# Altium schematic symbol library sensor_temp&humidity.SchLib: 64 symbols
Pins are listed as number, name and electrical type; pins without a type are passive.

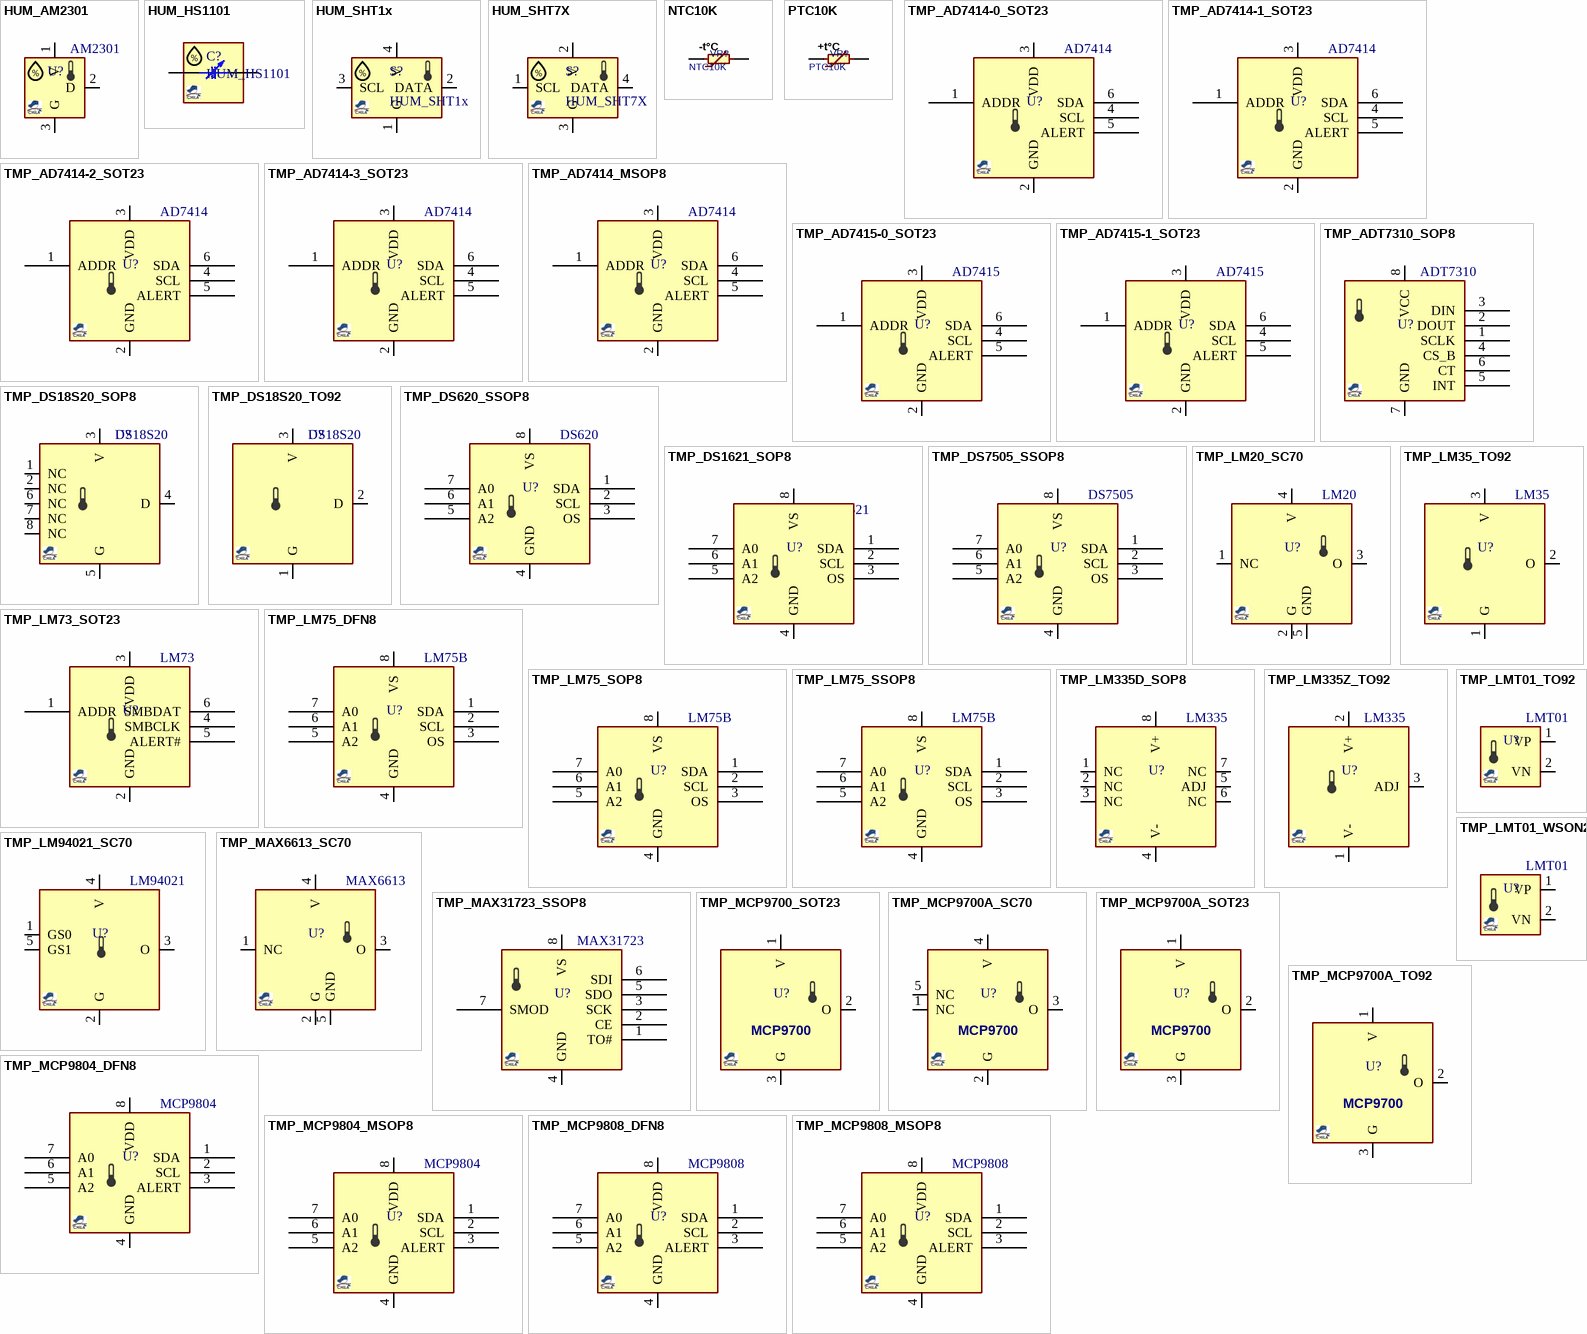
[diagram p0: symbols HUM_AM2301 to TMP_MCP9808_MSOP8]

## HUM_AM2301
designator U?, comment AM2301
Sensor, Humidity+Temp, Digital, Capacitive; PARAM2: PARAM2; VALUE: AM2301
footprint WF_4 (Footprint not found)
pins: 1 V, 2 D, 3 G

## HUM_HS1101
designator C?
SENSOR, HUMIDITY, RELATIVE; PARAM2: PARAM2
footprint HS1101 (HUMIDITY SENSOR)
pins: 1, 2

## HUM_SHT1x
designator S?
Sensor, Humidity+Temp, digital I2C interface; PARAM2: PARAM2
footprint SHT1X
pins: 1 G, 2 DATA, 3 SCL, 4 V

## HUM_SHT7X
designator S?
Sensor, Humidity+Temp, digital I2C interface; PARAM2: PARAM2
footprint SHT7X
pins: 1 SCL, 2 V, 3 G, 4 DATA

## NTC10K
designator VR?
Thermistor, NTC; PARAM: 10K; MANF: -; PARAM2: -; MANF_P#: NTC; PRICE: -; VALUE: NTC10K
footprint NTC_15X6 (NTC, pitch 5mm, 15X6mm, B57153)
pins: 1, 2
text: -t°C

## PTC10K
designator VR?
Thermistor, NTC; MANF_P#: PTC; PARAM: 10K; MANF: -; PARAM2: -; PRICE: -; VALUE: PTC10K
footprint NTC_15X6 (NTC, pitch 5mm, 15X6mm, B57153)
pins: 1, 2
text: +t°C

## TMP_AD7414-0_SOT23
designator U?, comment AD7414
SENSOR, TEMP, DIGITAL, I2C, 10BIT, -40~125oC, ±0.5°C; MANF_P#: AD7414ARTZ-0; MANF: Analog Devices; PARAM2: VCC2.7~5.5VCC; PARAM: 10BIT, -40~125°C, ±0.5°C; PRICE: 3$; VALUE: AD7414
footprint SOT23_6 (SOT-23-6, DDC, MICRO6, SOT-26, SOT457, SuperSOT6, TSOP-6, HMC313, MO-178AB, MO-193AA, TSOT)
pins: 1 ADDR, 2 GND, 3 VDD, 4 SCL, 5 ALERT, 6 SDA

## TMP_AD7414-1_SOT23
designator U?, comment AD7414
SENSOR, TEMP, DIGITAL, I2C, 10BIT, -40~125oC, ±0.5°C; MANF_P#: AD7414ARTZ-1; MANF: Analog Devices; PARAM2: VCC2.7~5.5VCC; PARAM: 10BIT, -40~125°C, ±0.5°C; PRICE: 3$; VALUE: AD7414
footprint SOT23_6 (SOT-23-6, DDC, MICRO6, SOT-26, SOT457, SuperSOT6, TSOP-6, HMC313, MO-178AB, MO-193AA, TSOT)
pins: 1 ADDR, 2 GND, 3 VDD, 4 SCL, 5 ALERT, 6 SDA

## TMP_AD7414-2_SOT23
designator U?, comment AD7414
SENSOR, TEMP, DIGITAL, I2C, 10BIT, -40~125oC, ±0.5°C; MANF_P#: AD7414ARTZ-2; MANF: Analog Devices; PARAM2: VCC2.7~5.5VCC; PARAM: 10BIT, -40~125°C, ±0.5°C; PRICE: 3$; VALUE: AD7414
footprint SOT23_6 (SOT-23-6, DDC, MICRO6, SOT-26, SOT457, SuperSOT6, TSOP-6, HMC313, MO-178AB, MO-193AA, TSOT)
pins: 1 ADDR, 2 GND, 3 VDD, 4 SCL, 5 ALERT, 6 SDA

## TMP_AD7414-3_SOT23
designator U?, comment AD7414
SENSOR, TEMP, DIGITAL, I2C, 10BIT, -40~125oC, ±0.5°C; MANF_P#: AD7414ARTZ-3; MANF: Analog Devices; PARAM2: VCC2.7~5.5VCC; PARAM: 10BIT, -40~125°C, ±0.5°C; PRICE: 3$; VALUE: AD7414
footprint SOT23_6 (SOT-23-6, DDC, MICRO6, SOT-26, SOT457, SuperSOT6, TSOP-6, HMC313, MO-178AB, MO-193AA, TSOT)
pins: 1 ADDR, 2 GND, 3 VDD, 4 SCL, 5 ALERT, 6 SDA

## TMP_AD7414_MSOP8
designator U?, comment AD7414
SENSOR, TEMP, DIGITAL, I2C, 10BIT, -40~125oC, ±0.5°C; MANF_P#: AD7414ARMZ; MANF: Analog Devices; PARAM2: VCC2.7~5.5VCC; PARAM: 10BIT, -40~125°C, ±0.5°C; PRICE: 3$; VALUE: AD7414
footprint SOG65_8_3 (TSSOP8, MICRO8, DGK VSSOP-8, pitch: 0.65mm, 3X3mm, MSOP8, RM-8, MS8, MSOP-8, TSSO3X5-G8/D3.1, 8 uMAX, usop8/8uSOP, MO-187AA, MO-153AA, SSOP DCT (TI))
pins: 1 ADDR, 2 GND, 3 VDD, 4 SCL, 5 ALERT, 6 SDA

## TMP_AD7415-0_SOT23
designator U?, comment AD7415
SENSOR, TEMP, DIGITAL, I2C, 10BIT, -40~125oC, ±0.5°C; MANF_P#: AD7415ARTZ-0; MANF: Analog Devices; PARAM2: VCC2.7~5.5VCC; PARAM: 10BIT, -40~125°C, ±0.5°C; PRICE: 3$; VALUE: AD7415
footprint SOT23_6 (SOT-23-6, DDC, MICRO6, SOT-26, SOT457, SuperSOT6, TSOP-6, HMC313, MO-178AB, MO-193AA, TSOT)
pins: 1 ADDR, 2 GND, 3 VDD, 4 SCL, 5 ALERT, 6 SDA

## TMP_AD7415-1_SOT23
designator U?, comment AD7415
SENSOR, TEMP, DIGITAL, I2C, 10BIT, -40~125oC, ±0.5°C; MANF_P#: AD7415ARTZ-1; MANF: Analog Devices; PARAM2: VCC2.7~5.5VCC; PARAM: 10BIT, -40~125°C, ±0.5°C; PRICE: 3$; VALUE: AD7415
footprint SOT23_6 (SOT-23-6, DDC, MICRO6, SOT-26, SOT457, SuperSOT6, TSOP-6, HMC313, MO-178AB, MO-193AA, TSOT)
pins: 1 ADDR, 2 GND, 3 VDD, 4 SCL, 5 ALERT, 6 SDA

## TMP_ADT7310_SOP8
designator U?, comment ADT7310
SENSOR, TEMP, DIGITAL, SPI, 2.7~3.6v, -55~105oC, 0.5oC; MANF_P#: ADT7310TRZ; MANF: Analog Devices; PARAM2: VCC2.7~3.6v; PARAM: -40~105oC, 0.5oC; PRICE: 3.65$; VALUE: ADT7310
footprint SO_8 (SOP-8, 5x3.9mm body 1.27mm pitch, SOT96-1, M08A, S8, SOIC8, VO8, MS-012AA(JEDEC), R-8, 8S2, VOG8)
pins: 1 SCLK, 2 DOUT, 3 DIN, 4 CS_B, 5 INT, 6 CT, 7 GND, 8 VCC

## TMP_DS18S20_SOP8
designator U?, comment DS18S20
SENSOR, TEMP, Digital, 1WIRE, -55~125oC, VCC3~5.5V, +/-0.5oC Accuracy; MANF_P#: DS18S20Z+; MANF: MAXIM; PARAM: -55~125oC, +/-0.5oC Accuracy; PARAM2: VCC3~5.5V; PRICE: 3.1$; VALUE: DS18S20
footprint TO92_3SMT (TO-92)
footprint SO_8
pins: 1 NC, 2 NC, 3 V, 4 D, 5 G, 6 NC, 7 NC, 8 NC

## TMP_DS18S20_TO92
designator U?, comment DS18S20
SENSOR, TEMP, Digital, 1WIRE, -55~125oC, VCC3~5.5V, +/-0.5oC Accuracy; MANF_P#: DS18S20+; MANF: MAXIM; PARAM: -55~125oC, +/-0.5oC Accuracy; PARAM2: VCC3~5.5V; PRICE: 3$; VALUE: DS18S20
footprint TO92_3SMT (TO-92)
footprint TO92_3 (TO-92)
pins: 1 G, 2 D, 3 V

## TMP_DS620_SSOP8
designator U?, comment DS620
SENSOR, TEMP, DIGITAL, I2C, VCC1.7~3.5v, -55~125oC, 0.5oC; MANF_P#: DS620U+; MANF: MAXIM Integrated; PARAM2: VCC1.7~3.5v; PARAM: -55~125oC, 0.5oC; PRICE: $2.5; VALUE: DS620
footprint SOG65_8T_3
pins: 1 SDA, 2 SCL, 3 OS, 4 GND, 5 A2, 6 A1, 7 A0 , 8 VS

## TMP_DS1621_SOP8
designator U?, comment DS1621
SENSOR, TEMP, DIGITAL, I2C, VCC2.7~5.5v, -55~125oC, 0.5oC; MANF_P#: DS1621S+; MANF: MAXIM Integrated; PARAM2: VCC2.7~5.5v; PARAM: -55~125oC, 0.5oC; PRICE: $3; VALUE: DS1621
footprint SO_8
pins: 1 SDA, 2 SCL, 3 OS, 4 GND, 5 A2, 6 A1, 7 A0 , 8 VS

## TMP_DS7505_SSOP8
designator U?, comment DS7505
SENSOR, TEMP, DIGITAL, I2C, VCC1.7~3.7v, -55~125oC, 0.5oC; MANF_P#: DS7505U+; MANF: MAXIM Integrated; PARAM2: VCC1.7~3.7v; PARAM: -55~125oC, 0.5oC; PRICE: $2; VALUE: DS7505
footprint SOG65_8_3 (TSSOP8, MICRO8,  DGK VSSOP-8, MSOP8,   RM-8, MS8, MSOP-8, TSSO3X5-G8/D3.1, 8 uMAX, usop8/8uSOP, MO-187AA, MO-153AA, SSOP DCT SM8 (TI), pitch: 0.65mm, 3.0mmX3.0mm)
pins: 1 SDA, 2 SCL, 3 OS, 4 GND, 5 A2, 6 A1, 7 A0 , 8 VS

## TMP_LM20_SC70
designator U?, comment LM20
SENSOR, TEMP, ANALOG, -55~130oC, VCC2.4~5.5v, +/-1.5oC Accuracy; MANF_P#: LM20BIM7, LM20BIM7X, LM20CIM7X, LM20CIM7; MANF: Texas Instruments; PARAM: -55~130oC, +/-1.5oC Accuracy; ALT: STLM20, MAX6613; PRICE: $1.1; PARAM2: VCC2.4~5.5v; VALUE: LM20
footprint SOT353_5 (SC-88A, SC70-5, SOT-353, DCK (TI), DSO65_5_200X130)
pins: 1 NC, 2 G, 3 O, 4 V, 5 GND

## TMP_LM35_TO92
designator U?, comment LM35
SENSOR, TEMP, ANALOG, -55~150oC, 4~20Vcc, Out 0mV + 10mV/oC; MANF_P#: LM35CZ, LM35CAZ or LM35DZ; MANF: TI; PARAM: 0.5°C Accuracy, 10mV/oC, -55~150oC; PARAM2: 4~20Vcc; PRICE: 7$; VALUE: LM35
footprint TO92_3 (TO-92)
pins: 1 G, 2 O, 3 V

## TMP_LM73_SOT23
designator U?, comment LM73
SENSOR, TEMP, DIGITAL, I2C, 14BIT, -40~150oC, ±2°C; MANF_P#: LM73CIMK; MANF: Texas Instruments; PARAM2: VCC2.7~5.5VCC; PARAM: 14BIT, -40~150oC, ±2°C; PRICE: 2.4$; VALUE: LM73
footprint SOT23_6 (SOT-23-6, DDC, MICRO6, SOT-26, SOT457, SuperSOT6, TSOP-6, HMC313, MO-178AB, MO-193AA, TSOT)
pins: 1 ADDR, 2 GND, 3 VDD, 4 SMBCLK, 5 ALERT#, 6 SMBDAT

## TMP_LM75_DFN8
designator U?, comment LM75B
SENSOR, TEMP, DIGITAL, I2C, 11BIT, -55~125oC, ±3°C; MANF_P#: LM75BTP, LM75BGD; MANF: NXP; PARAM2: 2.8~5.5VCC; PARAM: 11BIT, -55~125oC, ±3°C; PRICE: 0.8$; VALUE: LM75B
footprint SON50_8T_2X3 (TDFN, UFDFPN8, Pitch: 0.5mm 2x3x0.8mm with Thermal pad)
pins: 1 SDA, 2 SCL, 3 OS, 4 GND, 5 A2, 6 A1, 7 A0, 8 VS

## TMP_LM75_SOP8
designator U?, comment LM75B
SENSOR, TEMP, DIGITAL, I2C, 11BIT, -55~125oC, ±3°C; MANF_P#: LM75BIM, LM75BIMX, LM75BD; MANF: NXP,  Texas Instruments; PARAM2: 2.8~5.5VCC; PARAM: 11BIT, -55~125oC, ±3°C; PRICE: 0.8$; VALUE: LM75B
footprint SO_8
pins: 1 SDA, 2 SCL, 3 OS, 4 GND, 5 A2, 6 A1, 7 A0, 8 VS

## TMP_LM75_SSOP8
designator U?, comment LM75B
SENSOR, TEMP, DIGITAL, I2C, 11BIT, -55~125oC, ±3°C; MANF_P#: LM75BIMM,  LM75BDP, LM75BIMMX-3+; MANF: NXP,  Texas Instruments, Maxim; PARAM2: 2.8~5.5VCC; PARAM: 11BIT, -55~125oC, ±3°C; PRICE: 0.8$; VALUE: LM75B
footprint SOG65_8_3 (TSSOP8, MICRO8, DGK VSSOP-8, pitch: 0.65mm, 3X3mm, MSOP8, RM-8, MS8, MSOP-8, TSSO3X5-G8/D3.1, 8 uMAX, usop8/8uSOP, MO-187AA, MO-153AA, SSOP DCT (TI))
pins: 1 SDA, 2 SCL, 3 OS, 4 GND, 5 A2, 6 A1, 7 A0, 8 VS

## TMP_LM335D_SOP8
designator U?, comment LM335
SENSOR, TEMP, ANALOG, 2~150oC, VCC4~20v, 10mV/oC; MANF_P#: LM335D,; MANF: ST; PARAM2: PARAM2; VALUE: LM335
footprint TO92_3 (TO-92)
pins: 1 NC, 2 NC, 3 NC, 4 V-, 5 ADJ, 6 NC, 7 NC, 8 V+

## TMP_LM335Z_TO92
designator U?, comment LM335
SENSOR, TEMP, ANALOG, 2~150oC, VCC4~20v, 10mV/oC; MANF_P#: LM335Z, LM335AZ; MANF: ST; PARAM2: PARAM2; VALUE: LM335
footprint TO92_3 (TO-92)
pins: 1 V-, 2 V+, 3 ADJ

## TMP_LM94021_SC70
designator U?, comment LM94021
SENSOR, TEMP, ANALOG, -50~150oC, VCC1.5~5.5v, +/-1.5oC Accuracy; MANF_P#: LM94021BIMG, LM94021BIMGX, LM94021QBIMG; MANF: Texas Instruments; PARAM: -50~150oC, +/-1.5oC Accuracy; ALT: STLM20, MAX6613, LM20; PRICE: $1; PARAM2: VCC1.5~5.5v; VALUE: LM94021
footprint SOT353_5 (SC-88A, SC70-5, SOT-353, DCK (TI), DSO65_5_200X130)
pins: 1 GS0, 2 G, 3 O, 4 V, 5 GS1

## TMP_LMT01_TO92
designator U?, comment LMT01
SENSOR, TEMP, DIGITAK, -50~150oC, VCC3~5.5v, Pulse interface; MANF_P#: LMT01LPG; MANF: Texas Instruments; PARAM2: PARAM2; VALUE: LMT01
footprint TO92_2 (TO-92 LPG)
pins: 1 VP, 2 VN

## TMP_LMT01_WSON2
designator U?, comment LMT01
SENSOR, TEMP, DIGITAK, -50~150oC, VCC3~5.5v, Pulse interface; MANF_P#: LMT01LPG; MANF: Texas Instruments; PARAM2: PARAM2; VALUE: LMT01
footprint D_WSON2517 (WSON, DQX 2.5X1.7mm)
pins: 1 VP, 2 VN

## TMP_MAX6613_SC70
designator U?, comment MAX6613
SENSOR, TEMP, ANALOG, -55~130oC, VCC1.8~5.5v, +/-4oC Accuracy; MANF_P#: MAX6613MXK+; MANF: Maxim Integrated; PARAM: -55~130oC, +/-4oC Accuracy; ALT: LM20, STLM20; PRICE: $0.86; PARAM2: VCC1.8~5.5v; VALUE: MAX6613
footprint SOT353_5 (SC-88A, SC70-5, SOT-353, DCK (TI), DSO65_5_200X130)
pins: 1 NC, 2 G, 3 O, 4 V, 5 GND

## TMP_MAX31723_SSOP8
designator U?, comment MAX31723
SENSOR, TEMP, DIGITAL, SPI, VCC1.7~3.7v, -55~125oC, 0.5oC; MANF_P#: MAX31723MUA+; MANF: MAXIM Integrated; PARAM: ~5.5v, -55~125oC, 0.5oC; PARAM2: VCC1.7~3.7v; PRICE: $2; VALUE: MAX31723
footprint SOG65_8_3 (pitch: 0.65mm, 3.0mmX3.0mm, SSOP DCT SM8 (TI), TSSOP8, MICRO8, DGK, MSOP8, RM-8, MS8, MSOP-8, usop8/8uSOP)
pins: 1 TO#, 2 CE, 3 SCK, 4 GND, 5 SDO, 6 SDI, 7 SMOD, 8 VS

## TMP_MCP9700_SOT23
designator U?, comment MCP9700  (value not drawn)
SENSOR, TEMP, ANALOG, -40~150oC, VCC2.3~5.5v, +/-2oC Accuracy; MANF_P#: MCP9700T-E/TT; MANF: Microchip; PARAM: -40~150oC, +/-4oC Accuracy; PRICE: $0.3; PARAM2: VCC2.3~5.5v; VALUE: MCP9700
footprint SOT23_3 (SOT-23, Micro3, MO-178, TO-236AB, MO-193C, SuperSOT3, SC-59, DSO190_3_300X150)
pins: 1 V, 2 O, 3 G

## TMP_MCP9700A_SC70
designator U?, comment MCP9700  (value not drawn)
SENSOR, TEMP, ANALOG, -40~150oC, VCC2.3~5.5v, +/-4oC Accuracy; MANF_P#: MCP9700AT-E/LT; MANF: Microchip; PARAM: -40~150oC, +/-4oC Accuracy; PRICE: $0.3; PARAM2: VCC2.3~5.5v; VALUE: MCP9700
footprint SOT353_5 (SC-88A, SC70-5, SOT-353, DCK (TI), DSO65_5_200X130)
pins: 1 NC, 2 G, 3 O, 4 V, 5 NC

## TMP_MCP9700A_SOT23
designator U?, comment MCP9700  (value not drawn)
SENSOR, TEMP, ANALOG, -40~150oC, VCC2.3~5.5v, +/-2oC Accuracy; MANF_P#: MCP9700AT-E/TT; MANF: Microchip; PARAM: -40~150oC, +/-4oC Accuracy; PRICE: $0.3; PARAM2: VCC2.3~5.5v; VALUE: MCP9700
footprint SOT23_3 (SOT-23, Micro3, MO-178, TO-236AB, MO-193C, SuperSOT3, SC-59, DSO190_3_300X150)
pins: 1 V, 2 O, 3 G

## TMP_MCP9700A_TO92
designator U?, comment MCP9700  (value not drawn)
SENSOR, TEMP, ANALOG, -40~150oC, VCC2.3~5.5v, +/-4oC Accuracy; MANF_P#: MCP9700A-E/TO; MANF: Microchip; PARAM: -40~150oC, +/-4oC Accuracy; PRICE: $0.3; PARAM2: VCC2.3~5.5v; VALUE: MCP9700
footprint TO92_3 (TO-92)
pins: 1 V, 2 O, 3 G

## TMP_MCP9804_DFN8
designator U?, comment MCP9804
SENSOR, TEMP, DIGITAL, I2C, -40~125°C, ±0.25°C, 16-Bit; MANF_P#: MCP9804T-E/MC; MANF: Microchip; PARAM2: 2.7~5.5VCC; PARAM: -40~125°C, ±0.25°C, 16-Bit; PRICE: 1.7$; VALUE: MCP9804
footprint SON50_8T_2X3 (TDFN, UFDFPN8, Pitch: 0.5mm 2x3x0.8mm with Thermal pad)
pins: 1 SDA, 2 SCL, 3 ALERT, 4 GND, 5 A2, 6 A1, 7 A0, 8 VDD

## TMP_MCP9804_MSOP8
designator U?, comment MCP9804
SENSOR, TEMP, DIGITAL, I2C, -40~125°C, ±0.25°C, 16-Bit; MANF_P#: MCP9804T-E/MS; MANF: Microchip; PARAM2: 2.7~5.5VCC; PARAM: -40~125°C, ±0.25°C, 16-Bit; PRICE: 1.7$; VALUE: MCP9804
footprint SOG65_8_3 (TSSOP8, MICRO8, DGK VSSOP-8, pitch: 0.65mm, 3X3mm, MSOP8, RM-8, MS8, MSOP-8, TSSO3X5-G8/D3.1, 8 uMAX, usop8/8uSOP, MO-187AA, MO-153AA, SSOP DCT (TI))
pins: 1 SDA, 2 SCL, 3 ALERT, 4 GND, 5 A2, 6 A1, 7 A0, 8 VDD

## TMP_MCP9808_DFN8
designator U?, comment MCP9808
SENSOR, TEMP, DIGITAL, I2C, -40~125°C, ±0.25°C, 16-Bit; MANF_P#: MCP9808T-E/MC; MANF: Microchip; PARAM2: 2.7~5.5VCC; PARAM: -40~125°C, ±0.25°C, 16-Bit; PRICE: 1.1$; VALUE: MCP9808
footprint SON50_8T_2X3 (TDFN, UFDFPN8, Pitch: 0.5mm 2x3x0.8mm with Thermal pad)
pins: 1 SDA, 2 SCL, 3 ALERT, 4 GND, 5 A2, 6 A1, 7 A0, 8 VDD

## TMP_MCP9808_MSOP8
designator U?, comment MCP9808
SENSOR, TEMP, DIGITAL, I2C, -40~125°C, ±0.25°C, 16-Bit; MANF_P#: MCP9808T-E/MS; MANF: Microchip; PARAM2: 2.7~5.5VCC; PARAM: -40~125°C, ±0.25°C, 16-Bit; PRICE: 1.1$; VALUE: MCP9808
footprint SOG65_8_3 (TSSOP8, MICRO8, DGK VSSOP-8, pitch: 0.65mm, 3X3mm, MSOP8, RM-8, MS8, MSOP-8, TSSO3X5-G8/D3.1, 8 uMAX, usop8/8uSOP, MO-187AA, MO-153AA, SSOP DCT (TI))
pins: 1 SDA, 2 SCL, 3 ALERT, 4 GND, 5 A2, 6 A1, 7 A0, 8 VDD

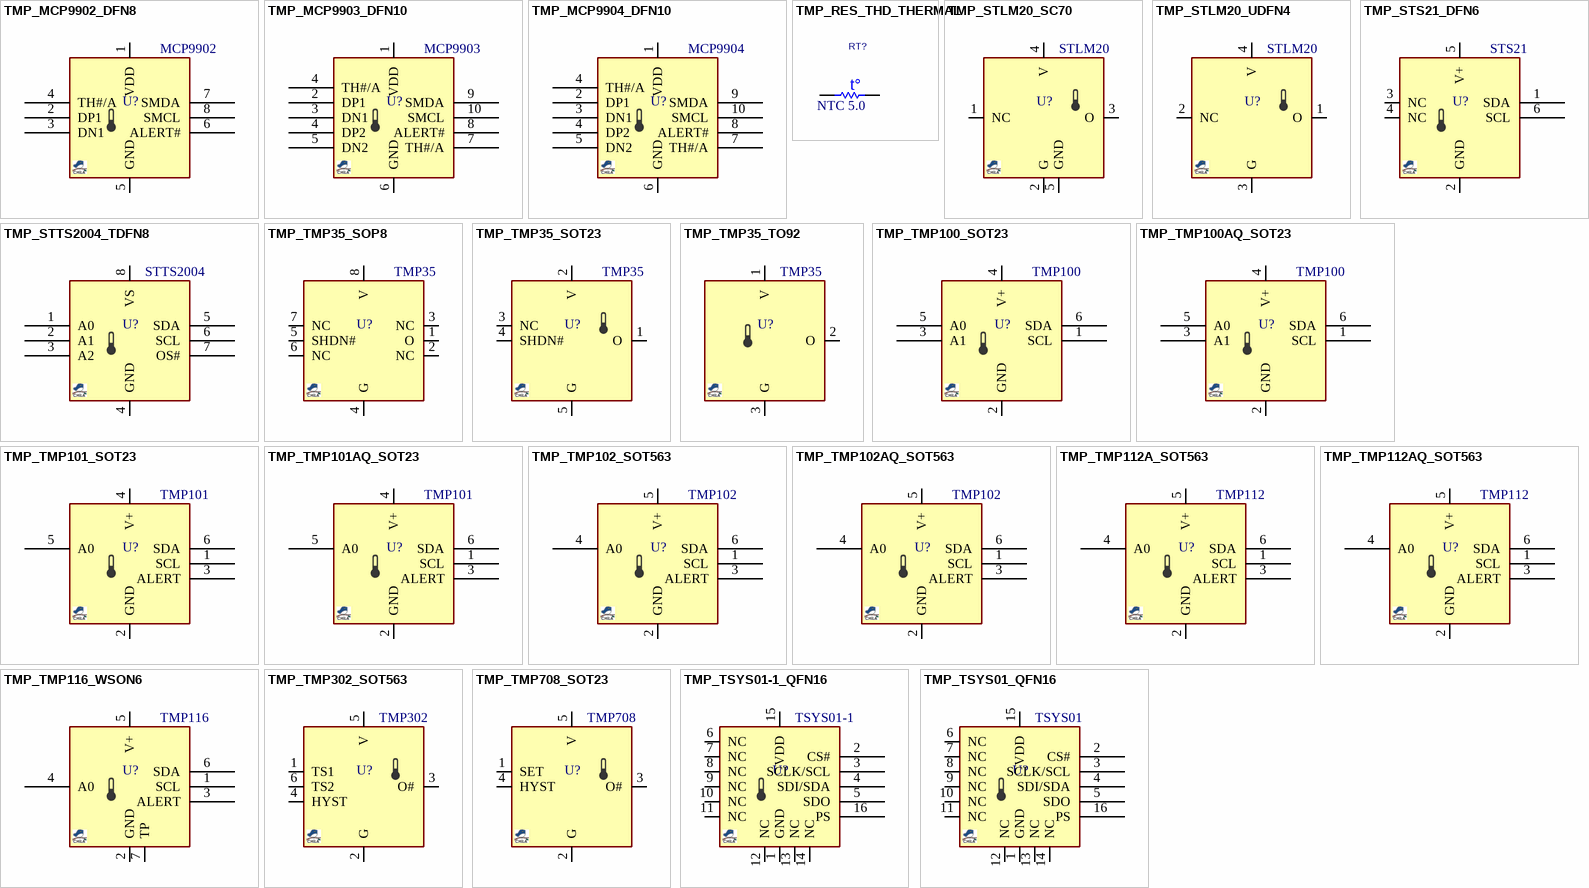
[diagram p1: symbols TMP_MCP9902_DFN8 to TMP_TSYS01_QFN16]

## TMP_MCP9902_DFN8
designator U?, comment MCP9902
SENSOR, TEMP, DIGITAL, I2C, -40~105°C, ±1°C; MANF_P#: MCP9902T-1E/RW; MANF: Microchip; PARAM2: 3~3.6VCC; PARAM: -40~105°C, ±1°C; PRICE: 0.6$; VALUE: MCP9902
footprint SON50_8T_2X2 (DSG PWSON (TI), Pitch: 0.5mm 2x2x0.8mm with Thermal pad)
pins: 1 VDD, 2 DP1, 3 DN1, 4 TH#/A, 5 GND, 6 ALERT#, 7 SMDA, 8 SMCL

## TMP_MCP9903_DFN10
designator U?, comment MCP9903
SENSOR, TEMP, DIGITAL, I2C, -40~105°C, ±1°C; MANF_P#: MCP9903T-AE/9Q, MCP9903T-1E/9Q; MANF: Microchip; PARAM2: 3~3.6VCC; PARAM: -40~125°C, ±1°C; PRICE: 0.8$; VALUE: MCP9903
footprint SON50_10T_3X3 (DRC SON(TI), 10 TDFN (MAXIM), 3X3mm, Pitch: 0.5mm with thermal pad)
pins: 1 VDD, 2 DP1, 3 DN1, 4 TH#/A, 4 DP2, 5 DN2, 6 GND, 7 TH#/A, 8 ALERT#, 9 SMDA, 10 SMCL

## TMP_MCP9904_DFN10
designator U?, comment MCP9904
SENSOR, TEMP, DIGITAL, I2C, -40~105°C, ±1°C; MANF_P#: MCP9904T-1E/9Q; MANF: Microchip; PARAM2: 3~3.6VCC; PARAM: -40~125°C, ±1°C; PRICE: 0.8$; VALUE: MCP9904
footprint SON50_10T_3X3 (DRC SON(TI), 10 TDFN (MAXIM), 3X3mm, Pitch: 0.5mm with thermal pad)
pins: 1 VDD, 2 DP1, 3 DN1, 4 TH#/A, 4 DP2, 5 DN2, 6 GND, 7 TH#/A, 8 ALERT#, 9 SMDA, 10 SMCL

## TMP_RES_THD_THERMAL
designator RT?, comment NTC 5.0
RESISTOR, THD, NTC; PARAM2: PARAM2; VALUE: NTC 5.0
footprint NTC_12X4 (NTC, pitch 7.5mm, 12X4mm)
pins: 1, 2
text: t°

## TMP_STLM20_SC70
designator U?, comment STLM20
SENSOR, TEMP, ANALOG, -55~130oC, VCC2.4~5.5v, +/-1.5oC Accuracy; MANF_P#: STLM20W87F; MANF: STMicroelectronics; PARAM: -55~130oC, +/-1.5oC Accuracy; ALT: MAX6613, LM20; PRICE: $1; PARAM2: VCC2.4~5.5v; VALUE: STLM20
footprint SOT353_5 (SC-88A, SC70-5, SOT-353, DCK (TI), DSO65_5_200X130)
pins: 1 NC, 2 G, 3 O, 4 V, 5 GND

## TMP_STLM20_UDFN4
designator U?, comment STLM20
SENSOR, TEMP, ANALOG, -55~130oC, VCC2.4~5.5v, +/-1.5oC Accuracy; MANF_P#: STLM20W87F; MANF: STMicroelectronics; PARAM: -55~130oC, +/-1.5oC Accuracy; PRICE: $1; PARAM2: VCC2.4~5.5v; VALUE: STLM20
footprint SON50_4 (UDFN-4, 1X1.3mm, 0.5mm pitch)
pins: 1 O, 2 NC, 3 G, 4 V

## TMP_STS21_DFN6
designator U?, comment STS21
SENSOR, TEMP, DIGITAL, I2C 14-Bit, V2.1~3.6V, –40~+125°C, ±0.2°C; MANF: Sensirion; MANF_P#: STS21; PARAM2: 2.1~3.6V; PARAM: –40~+125°C, ±0.2°C; PRICE: 2.7$; VALUE: STS21
footprint SON100_6T_3X3 (Footprint not found)
pins: 1 SDA, 2 GND, 3 NC, 4 NC, 5 V+, 6 SCL

## TMP_STTS2004_TDFN8
designator U?, comment STTS2004
SENSOR, TEMP, DIGITAL, I2C, VCC2.2~3.6v, -20~125oC, 0.5oC, MEMORY MODULE 4Kb; MANF_P#: STTS2004B2DN3F; MANF: ST; PARAM2: VCC2.2~3.6v; PARAM: -20~125oC, 0.5oC; PRICE: $2; VALUE: STTS2004
footprint SON50_8T_2X3 (TDFN, UFDFPN8, Pitch: 0.5mm 2x3x0.8mm with Thermal pad)
pins: 1 A0 , 2 A1, 3 A2, 4 GND, 5 SDA, 6 SCL, 7 OS#, 8 VS

## TMP_TMP35_SOP8
designator U?, comment TMP35
SENSOR, TEMP, ANALOG, 10~125oC, VCC2.7~5.5v, Out 0mV + 10mV/oC; MANF_P#: TMP35FSZ; MANF: ANALOG DEVICE; ALT: TMP35/36/37; PARAM2: VCC2.7~5.5v; PARAM: 10~125oC; VALUE: TMP35
footprint SO_8 (Footprint not found)
pins: 1 O, 2 NC, 3 NC, 4 G, 5 SHDN#, 6 NC, 7 NC, 8 V

## TMP_TMP35_SOT23
designator U?, comment TMP35
SENSOR, TEMP, ANALOG, 10~125oC, VCC2.7~5.5v, Out 0mV + 10mV/oC; MANF_P#: TMP35GRTZ; MANF: ANALOG DEVICE; ALT: TMP35/36/37; PARAM2: VCC2.7~5.5v; PARAM: 10~125oC; VALUE: TMP35
footprint SOT23_5 (SOT-23-5, SOT25, SOT-25, DBV(R-PDSO-G5), TSOT23-5, SC-74A, SOT23-5, S5-T (LINEAR), MO-178AA, MO-193AB(JEDEC), MF05A (NS), TSOP-6(ON), UJ-5 (AD))
pins: 1 O, 2 V, 3 NC, 4 SHDN#, 5 G

## TMP_TMP35_TO92
designator U?, comment TMP35
SENSOR, TEMP, ANALOG, 10~125oC, VCC2.7~5.5v, Out 0mV + 10mV/oC; MANF_P#: TMP35GT9Z; MANF: ANALOG DEVICE; ALT: TMP35/36/37; PARAM2: VCC2.7~5.5v; PARAM: 10~125oC; VALUE: TMP35
footprint TO92_3 (TO-92)
pins: 1 V, 2 O, 3 G

## TMP_TMP100_SOT23
designator U?, comment TMP100
SENSOR, TEMP, DIGITAL, I2C, 12BIT, –55~+125°C, ±1°C; MANF_P#: TMP100NA; MANF: Texas Instruments; PARAM2: 2.7~5.5VCC; PARAM: 12BIT, –55~+125°C, ±1°C; PRICE: 2$; VALUE: TMP100
footprint SOT23_6 (SOT-23-6, DDC, MICRO6, SOT-26, SOT457, SuperSOT6, TSOP-6, HMC313, MO-178AB, MO-193AA, TSOT)
pins: 1 SCL, 2 GND, 3 A1, 4 V+, 5 A0, 6 SDA

## TMP_TMP100AQ_SOT23
designator U?, comment TMP100
SENSOR, TEMP, DIGITAL, I2C, 12BIT, –55~+125°C, ±1°C; MANF_P#: TMP100AQDBV; MANF: Texas Instruments; PARAM2: 2.7~5.5VCC; DESC: AEC-Q100; PARAM: 12BIT, –55~+125°C, ±1°C; PRICE: 2.5$; VALUE: TMP100
footprint SOT23_6 (SOT-23-6, DDC, MICRO6, SOT-26, SOT457, SuperSOT6, TSOP-6, HMC313, MO-178AB, MO-193AA, TSOT)
pins: 1 SCL, 2 GND, 3 A1, 4 V+, 5 A0, 6 SDA

## TMP_TMP101_SOT23
designator U?, comment TMP101
SENSOR, TEMP, DIGITAL, I2C, 12BIT, –55~+125°C, ±1°C; MANF_P#: TMP101NA; MANF: Texas Instruments; PARAM2: 2.7~5.5VCC; PARAM: 12BIT, –55~+125°C, ±1°C; PRICE: 2$; VALUE: TMP101
footprint SOT23_6 (SOT-23-6, DDC, MICRO6, SOT-26, SOT457, SuperSOT6, TSOP-6, HMC313, MO-178AB, MO-193AA, TSOT)
pins: 1 SCL, 2 GND, 3 ALERT, 4 V+, 5 A0, 6 SDA

## TMP_TMP101AQ_SOT23
designator U?, comment TMP101
SENSOR, TEMP, DIGITAL, I2C, 12BIT, –55~+125°C, ±1°C; MANF_P#: TMP101AQDBV; MANF: Texas Instruments; PARAM2: 2.7~5.5VCC; DESC: AEC-Q100; PARAM: 12BIT, –55~+125°C, ±1°C; PRICE: 2.5$; VALUE: TMP101
footprint SOT23_6 (SOT-23-6, DDC, MICRO6, SOT-26, SOT457, SuperSOT6, TSOP-6, HMC313, MO-178AB, MO-193AA, TSOT)
pins: 1 SCL, 2 GND, 3 ALERT, 4 V+, 5 A0, 6 SDA

## TMP_TMP102_SOT563
designator U?, comment TMP102
SENSOR, TEMP, DIGITAL, I2C, 12BIT, –40~+125°C, 3°C; MANF_P#: TMP102AIDRL; MANF: Texas Instruments; PARAM2: 1.4~3.6VCC; PARAM: 12BIT, –40~+125°C, 3°C; PRICE: 1.8$; VALUE: TMP102
footprint SOT563_6 (SOT-563, 6 LEAD, Body 1.2x1.6mm, Pitch 0.50mm, DSO50_6_160X120)
pins: 1 SCL, 2 GND, 3 ALERT, 4 A0, 5 V+, 6 SDA

## TMP_TMP102AQ_SOT563
designator U?, comment TMP102
SENSOR, TEMP, DIGITAL, I2C, 12BIT, –40~+125°C, 3°C; MANF_P#: TMP102AQDRL; MANF: Texas Instruments; PARAM2: 1.4~3.6VCC; PARAM: 12BIT, –40~+125°C, 3°C; PRICE: 1.8$; VALUE: TMP102
footprint SOT563_6 (SOT-563, 6 LEAD, Body 1.2x1.6mm, Pitch 0.50mm, DSO50_6_160X120)
pins: 1 SCL, 2 GND, 3 ALERT, 4 A0, 5 V+, 6 SDA

## TMP_TMP112A_SOT563
designator U?, comment TMP112
SENSOR, TEMP, DIGITAL, I2C, 12BIT, –40~+125°C, 1°C; MANF_P#: TMP112AIDRL; MANF: Texas Instruments; PARAM2: 1.4~3.6VCC; PARAM: 12BIT, –40~+125°C, 1°C; PRICE: 1.8$; VALUE: TMP112
footprint SOT563_6 (SOT-563, 6 LEAD, Body 1.2x1.6mm, Pitch 0.50mm, DSO50_6_160X120)
pins: 1 SCL, 2 GND, 3 ALERT, 4 A0, 5 V+, 6 SDA

## TMP_TMP112AQ_SOT563
designator U?, comment TMP112
SENSOR, TEMP, DIGITAL, I2C, 12BIT, –40~+125°C, 1°C; MANF_P#: TMP112AQDRL; MANF: Texas Instruments; PARAM2: 1.4~3.6VCC; PARAM: 12BIT, –40~+125°C, 1°C; PRICE: 1.8$; VALUE: TMP112
footprint SOT563_6 (SOT-563, 6 LEAD, Body 1.2x1.6mm, Pitch 0.50mm, DSO50_6_160X120)
pins: 1 SCL, 2 GND, 3 ALERT, 4 A0, 5 V+, 6 SDA

## TMP_TMP116_WSON6
designator U?, comment TMP116
SENSOR, TEMP, DIGITAL, I2C, VCC1.9~5.5V, –10~+85°C, ±0.2°C, 64Bits EEPROM; MANF_P#: TMP116AIDRV; MANF: Texas Instruments; PARAM2: VCC1.9~5.5V; PARAM: –10~+85°C, ±0.2°C; PRICE: $2; VALUE: TMP116
footprint SON65_6T_2X2 (DRV PWSON DFN6 Pitch: 0.65mm 2x2x1.1mm)
pins: 1 SCL, 2 GND, 3 ALERT, 4 A0, 5 V+, 6 SDA, 7 TP

## TMP_TMP302_SOT563
designator U?, comment TMP302
SENSOR, TEMP, DIGITAL, -40~125oC, VCC1.4~3.6v, +/-0.2oC Accuracy; MANF_P#: TMP302DQDRLRQ1; MANF: Texas Instruments; PARAM: -40~125oC, +/-0.2oC Accuracy; ALT: TMP302BDRLR, TMP303CDRLT; PRICE: $0.7; PARAM2: VCC1.4~3.6v; VALUE: TMP302
footprint SOT563_6 (SOT-563, 6 LEAD, Body 1.2x1.6mm, Pitch 0.50mm, DSO50_6_160X120)
pins: 1 TS1, 2 G, 3 O#, 4 HYST, 5 V, 6 TS2

## TMP_TMP708_SOT23
designator U?, comment TMP708
SENSOR, TEMP, RESISTOR PROGRAMMABLE, 0~125oC, VCC2.7~5.5v, +/-0.5oC Accuracy; MANF_P#: TMP708AIDBVT; MANF: Texas Instruments; PARAM: 0~125oC, +/-0.5oC Accuracy; PRICE: $0.8; PARAM2: VCC2.7~5.5v; ALT: -; VALUE: TMP708
footprint SOT23_5 (SOT-23-5, SOT25, SOT-25, DBV(R-PDSO-G5), TSOT23-5, SC-74A, SOT23-5, S5-T (LINEAR), MO-178AA, MO-193AB(JEDEC), MF05A (NS), TSOP-6(ON), UJ-5 (AD))
pins: 1 SET, 2 G, 3 O#, 4 HYST, 5 V

## TMP_TSYS01-1_QFN16
designator U?, comment TSYS01-1
SENSOR, TEMP, DIGITAL, SPI/I2C, -5~50oC, ±0.1°C, 16-Bit; MANF: TE; PARAM2: 2.2~3.6VCC; PARAM: -20~70oC, ±0.1°C, 24-Bit, -40~125°C; MANF_P#: TSYS01-1; PRICE: 6$; VALUE: TSYS01-1
footprint QFN65_16T (MO-220 VGGC, MO-220 WGGC-4(JEDEC), 4X4mm, 0.65mm)
pins: 1 GND, 2 CS#, 3 SCLK/SCL, 4 SDI/SDA, 5 SDO, 6 NC, 7 NC, 8 NC, 9 NC, 10 NC, 11 NC, 12 NC, 13 NC, 14 NC, 15 VDD, 16 PS

## TMP_TSYS01_QFN16
designator U?, comment TSYS01
SENSOR, TEMP, DIGITAL, SPI/I2C, -5~50oC, ±0.1°C, 16-Bit; MANF: TE; PARAM2: 2.2~3.6VCC; PARAM: -5~50oC, ±0.1°C, 16-Bit, -40~125°C; MANF_P#: TSYS01; PRICE: 6$; VALUE: TSYS01
footprint QFN65_16T (MO-220 VGGC, MO-220 WGGC-4(JEDEC), 4X4mm, 0.65mm)
pins: 1 GND, 2 CS#, 3 SCLK/SCL, 4 SDI/SDA, 5 SDO, 6 NC, 7 NC, 8 NC, 9 NC, 10 NC, 11 NC, 12 NC, 13 NC, 14 NC, 15 VDD, 16 PS